# Altium integrated library MP2482.IntLib: 1 symbol
Pins are listed as number, name and electrical type; pins without a type are passive.

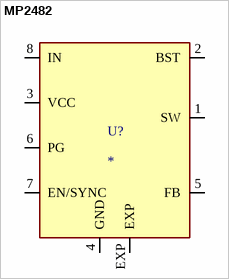
[diagram p0: symbol MP2482]

## MP2482
designator U?
5A, 30V, 420kHz Step-Down Converter; MF: Monolithic Power Systems Inc.; MP: MP2482; SnapEDA_Link: https://www.snapeda.com/parts/MP2482/Monolithic+Power+Systems+Inc./view-part/?ref=snap; Package: None; Value: *; Check_prices: https://www.snapeda.com/parts/MP2482/Monolithic+Power+Systems+Inc./view-part/?ref=eda
footprint SOP8-P
pins: 1 SW (io), 2 BST (io), 3 VCC (io), 4 GND (io), 5 FB (io), 6 PG (io), 7 EN/SYNC (io), 8 IN (io), EXP (io)